# EAGLE library part LIS302DL (library lis302)
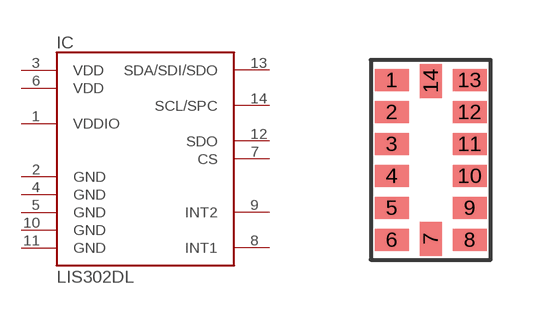
[diagram p0: symbol with the pads of LGA14; footprint LGA14]

Designator prefix IC

## LIS302DL  [LGA14]
1  VDDIO
2  GND
3  VDD
4  GND
5  GND
6  VDD
7  CS
8  INT1
9  INT2
10  GND
11  GND
12  SDO
13  SDA/SDI/SDO
14  SCL/SPC

## Footprint LGA14 (pad centres in mm)
smd 0.85 x 0.55: 1 -0.975,2; 2 -0.975,1.2; 3 -0.975,0.4; 4 -0.975,-0.4; 5 -0.975,-1.2; 6 -0.975,-2; 8 0.975,-2; 9 0.975,-1.2; 10 0.975,-0.4; 11 0.975,0.4; 12 0.975,1.2; 13 0.975,2
smd 0.55 x 0.85: 7 0,-1.975; 14 0,1.975